# EAGLE library part IRF7404 (library JCM)
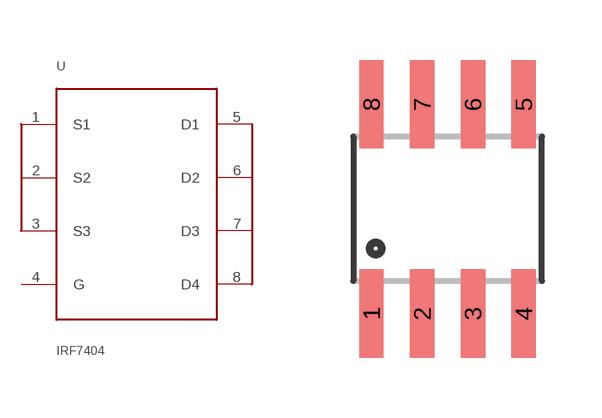
[diagram p6: symbol with the pads of SO08; footprint SO08]

Designator prefix -

## IRF7404  [SO08]
1  S1
2  S2
3  S3
4  G
5  D1
6  D2
7  D3
8  D4

## Footprint SO08 (pad centres in mm)
Small Outline Package Fits JEDEC packages (narrow SOIC-8)
smd 0.61 x 2.21: 1 -1.905,-2.616; 2 -0.635,-2.616; 3 0.635,-2.616; 4 1.905,-2.616; 5 1.905,2.616; 6 0.635,2.616; 7 -0.635,2.616; 8 -1.905,2.616